# Altium schematic symbol library U_LSM9DS1TR.SchLib: 1 symbol
Pins are listed as number, name and electrical type; pins without a type are passive.

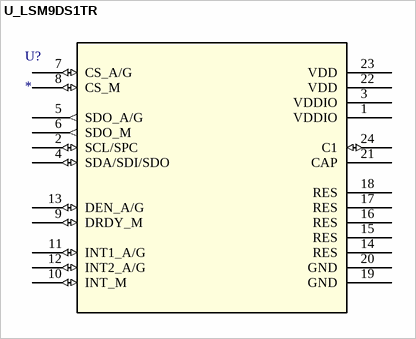
[diagram p0: symbol U_LSM9DS1TR]

## U_LSM9DS1TR
designator U?
No Description Available; Mfr_Name: STMicroelectronics; RefDes: RefDes; Type: Type
footprint LGA-24_3X3P5X1_STM
footprint LGA-24_3X3P5X1_STM
pins: 1 VDDIO (power), 2 SCL/SPC (io), 3 VDDIO (power), 4 SDA/SDI/SDO (io), 5 SDO_A/G (out), 6 SDO_M (out), 7 CS_A/G (io), 8 CS_M (io), 9 DRDY_M (io), 10 INT_M (io), 11 INT1_A/G (io), 12 INT2_A/G (io), 13 DEN_A/G (io), 14 RES, 15 RES, 16 RES, 17 RES, 18 RES, 19 GND (power), 20 GND (power), 21 CAP, 22 VDD (power), 23 VDD (power), 24 C1 (io)